# EAGLE library part TP4056-MODULE (library ESPkachu)
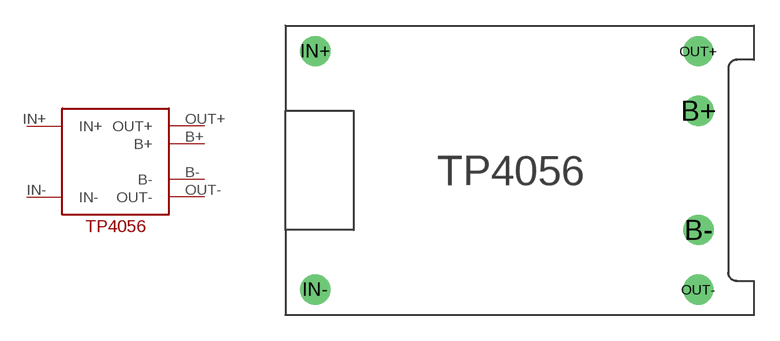
[diagram p3: symbol with the pads of TP4056-MODULE; footprint TP4056-MODULE]

Designator prefix -

## TP4056-MODULE  [TP4056-MODULE]
B+  B+  pwr
B-  B-  pwr
IN+  IN+  pwr
IN-  IN-  pwr
OUT+  OUT+  pwr
OUT-  OUT-  pwr

## Footprint TP4056-MODULE (pad centres in mm)
drill 0.9 pad 1.778: B+ 24.25,12; B- 24.25,5; IN+ 1.75,15.5; IN- 1.75,1.5; OUT+ 24.229,15.5; OUT- 24.229,1.5